# Altium schematic symbol library TPS40050Q.SchLib: 1 symbol
Pins are listed as number, name and electrical type; pins without a type are passive.

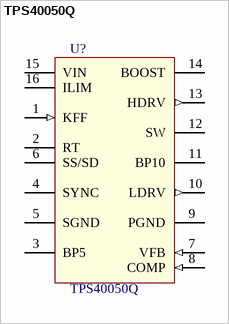
[diagram p0: symbol TPS40050Q]

## TPS40050Q
designator U?
Automotive 8V to 40V Synchronous Buck Controller; value: TPS40050Q
footprint HTSSOP-16 (HTSSOP-16 with Exposed Pad)
pins: 1 KFF (in), 2 RT, 3 BP5 (power), 4 SYNC, 5 SGND (power), 6 SS/SD, 7 VFB (in), 8 COMP (in), 9 PGND (power), 10 LDRV (out), 11 BP10 (power), 12 SW, 13 HDRV (out), 14 BOOST, 15 VIN, 16 ILIM